# EAGLE library part AMIS30543 (library Pololu)
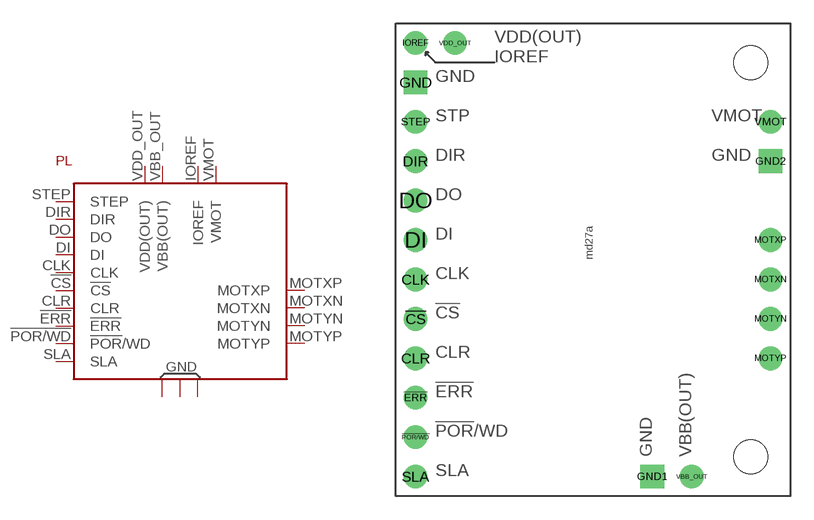
[diagram p1: symbol with the pads of MD27A; footprint MD27A]

Designator prefix PL

## AMIS30543  [MD27A]
!CS  !CS
!ERR  !ERR
!POR/WD  !POR!/WD
CLK  CLK
CLR  CLR
DI  DI
DIR  DIR
DO  DO
GND  GND1
GND1  GND2
GND2  GND3
IOREF  IOREF
MOTXN  MOTXN
MOTXP  MOTXP
MOTYN  MOTYN
MOTYP  MOTYP
SLA  SLA
STEP  STEP
VBB_OUT  VBB(OUT)
VDD_OUT  VDD(OUT)
VMOT  VMOT

## Footprint MD27A (pad centres in mm)
drill 1.02: !CS -11.43,-3.81; !ERR -11.43,-8.89; !POR/WD -11.43,-11.43; CLK -11.43,-1.27; CLR -11.43,-6.35; DI -11.43,1.27; DIR -11.43,6.35; DO -11.43,3.81; IOREF -11.43,13.97; MOTXN 11.43,-1.27; MOTXP 11.43,1.27; MOTYN 11.43,-3.81; MOTYP 11.43,-6.35; SLA -11.43,-13.97; STEP -11.43,8.89; VBB_OUT 6.35,-13.97; VDD_OUT -8.89,13.97; VMOT 11.43,8.89
drill 1.02 square: GND -11.43,11.43; GND1 3.81,-13.97; GND2 11.43,6.35
hole 2.2 at 10.16,12.7
hole 2.2 at 10.16,-12.7